# EAGLE library part LM311 (library hollywood-electrics)
(from TI datasheet for LM311): The LM111, LM211, and LM311 are single high-speed voltage comparators. These devices are designed to operate from a wide range of power-supply voltages, including ±15-V supplies for operational amplifiers and 5-V supplies for logic systems. The output levels are compatible with most TTL and MOS circuits. These comparators are capable of driving lamps or relays and switching voltages up to 50 V at 50 mA. All inputs and outputs can be isolated from system ground. The outputs can drive loads referenced to ground, VCC+ or VCC?. Offset balancing and strobe capabilities are available, and the outputs can be wire-OR connected. If the strobe is low, the output is in the off state, regardless of the differential input.
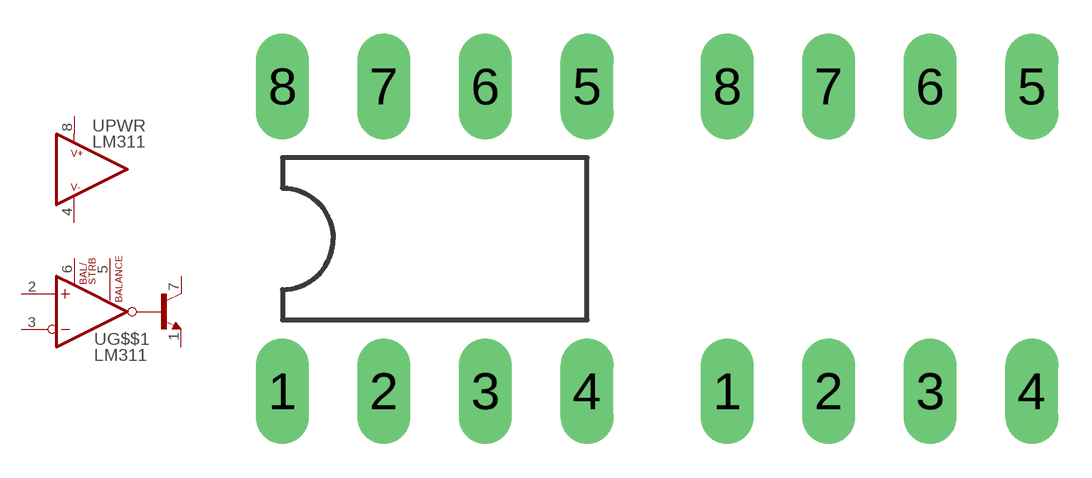
[diagram p0: symbol with the pads of DIP08; footprints DIP08, DIP08-SOCKET]

Designator prefix U; gates PWR=IC-GENERIC-PWR G$$1=LM311

## LM311-DIP08  [DIP08]
1  G$$1:EMIT-OUT
2  G$$1:IN+
3  G$$1:IN-
4  PWR:VEE/VSS/V-
5  G$$1:BALANCE
6  G$$1:BAL/STRB
7  G$$1:COL-OUT
8  PWR:VCC/VDD/V+

## LM311-DIP08-SOCKET  [DIP08-SOCKET]
Pads as for DIP08

## Footprint DIP08 (pad centres in mm)
drill 0.813 long: 1 -3.81,-3.81; 2 -1.27,-3.81; 3 1.27,-3.81; 4 3.81,-3.81; 5 3.81,3.81; 6 1.27,3.81; 7 -1.27,3.81; 8 -3.81,3.81

## Footprint DIP08-SOCKET (pad centres in mm)
drill 0.813 long: 1 -3.81,-3.81; 2 -1.27,-3.81; 3 1.27,-3.81; 4 3.81,-3.81; 5 3.81,3.81; 6 1.27,3.81; 7 -1.27,3.81; 8 -3.81,3.81